# EAGLE library part TS5A3159 (library Texas_Instruments_Logic)
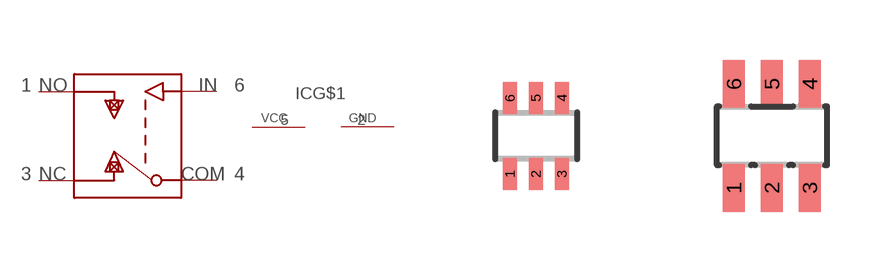
[diagram p0: symbol with the pads of SC70-6; footprints SC70-6, SOT23-6]

Designator prefix IC; gates G$1=PWRN G$2=SWITCH_PORT

## TS5A3159ADCKR  [SC70-6]
1  G$2:NO
2  G$1:GND  pwr
3  G$2:NC
4  G$2:COM
5  G$1:VCC  pwr
6  G$2:IN  in

## TS5A3159ADBVR  [SOT23-6]
Pads as for SC70-6

## Footprint SC70-6 (pad centres in mm)
6-Lead Thin Shrink Small Outline Transistor Package SC70 Source: http://www.analog.com/static/imported-files/data_sheets/ADA4853-1_4853-2_4853-3.pdf
smd 0.35 x 0.8: 1 -0.65,-0.95; 2 0,-0.95; 3 0.65,-0.95; 4 0.65,0.95; 5 0,0.95; 6 -0.65,0.95

## Footprint SOT23-6 (pad centres in mm)
5-Lead Small Outline Transistor Package SOT-23 Source: http://www.analog.com/UploadedFiles/Data_Sheets/346131962AD8067_a.pdf
smd 0.55 x 1.2: 1 -0.95,-1.3; 2 0,-1.3; 3 0.95,-1.3; 4 0.95,1.3; 5 0.003,1.3; 6 -0.95,1.3